# Altium schematic symbol library Intelliclone.SchLib: 488 symbols (part 4 of 6)
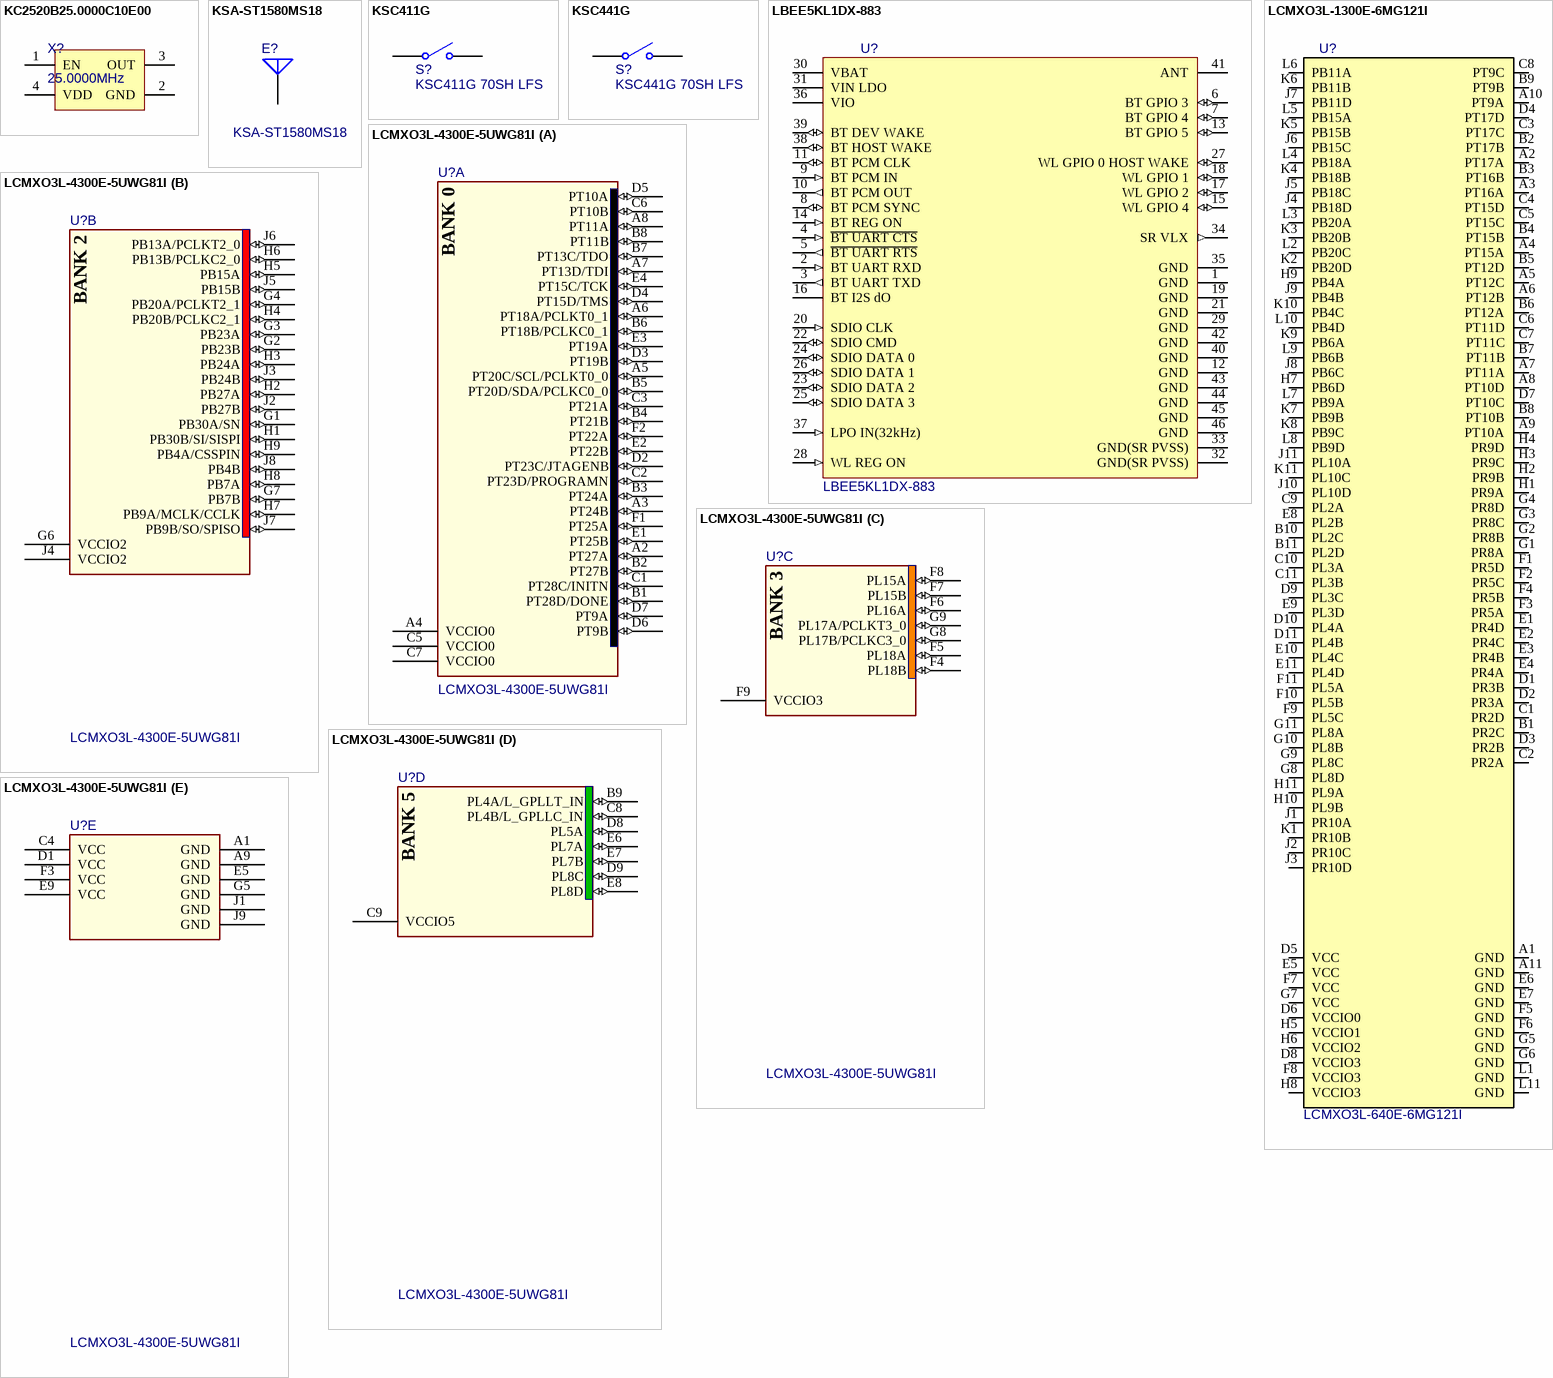
[diagram p24: symbols KC2520B25.0000C10E00 to LCMXO3L-4300E-5UWG81I]

## KSC411G
designator S?, comment KSC411G 70SH LFS
SWITCH TACT TOP ACT 400GF SMD; Manufacturer 1: C&K Components; Manufacturer Part Number 1: KSC411G 70SH LFS; Value: KSC411G 70SH LFS; Supplier 1: Digi-Key; Supplier Part Number 1: 401-1777-1-ND
footprint SWITCH-620G-4N (Switch Momentary Pushbutton 6.2mmx6.2mm Gull Lead)
pins: 1 COMMON, 2 NO

## KSC441G
designator S?, comment KSC441G 70SH LFS
SWITCH TACT TOP ACT 400GF SMD; Value: KSC441G 70SH LFS; Supplier 1: Digi-Key; Supplier Part Number 1: 401-1783-1-ND
footprint SWITCH-620G-4N (Switch Momentary Pushbutton 6.2mmx6.2mm Gull Lead)
pins: 1 COMMON, 2 NO

## LBEE5KL1DX-883
designator U?  (value not drawn)
RF TXRX MOD BLUETOOTH/WIFI; Manufacturer 1: Murata; CMT Part Number: 100215; Value: LBEE5KL1DX-883; Manufacturer Part Number 1: LBEE5KL1DX-883; Supplier 1: Digi-Key; Supplier Part Number 1: 490-13461-1-ND
footprint LBEE5KL1DX
pins: 1 GND (power), 2 BT UART RXD (in), 3 BT UART TXD (out), 4 ~{BT UART CTS} (in), 5 ~{BT UART RTS} (out), 6 BT GPIO 3 (io), 7 BT GPIO 4 (io), 8 BT PCM SYNC (io), 9 BT PCM IN (in), 10 BT PCM OUT (out), 11 BT PCM CLK (io), 12 GND (power), 13 BT GPIO 5 (io), 14 BT REG ON (in), 15 WL GPIO 4 (io), 16 BT I2S dO, 17 WL GPIO 2 (io), 18 WL GPIO 1 (io), 19 GND (power), 20 SDIO CLK (in), 21 GND (power), 22 SDIO CMD (io), 23 SDIO DATA 2 (io), 24 SDIO DATA 0 (io), 25 SDIO DATA 3 (io), 26 SDIO DATA 1 (io), 27 WL GPIO 0 HOST WAKE (io), 28 WL REG ON (in), 29 GND (power), 30 VBAT (power), 31 VIN LDO (power), 32 GND(SR PVSS) (power), 33 GND(SR PVSS) (power), 34 SR VLX (out), 35 GND (power), 36 VIO (power), 37 LPO IN(32kHz) (in), 38 BT HOST WAKE (io), 39 BT DEV WAKE (io), 40 GND (power), 41 ANT, 42 GND (power), 43 GND (power), 44 GND (power), 45 GND (power), 46 GND (power)

## LCMXO3L-1300E-6MG121I
designator U?, comment LCMXO3L-640E-6MG121I
IC FPGA 100 I/O 121CSFBGA; MF: Lattice Semiconductor; MP: LCMXO3L-1300E-6MG121I; SnapEDA_Link: https://www.snapeda.com/parts/LCMXO3L-640E-6MG121I/Lattice%20Semiconductor%20Corporation/view-part/?ref=snap; Package: VFBGA-121 Lattice Semiconductor; Price: None; Availability: Unavailable; Value: *
footprint BGA121N50P11X11_600X600X100_LCMXO3L-640E-6MG121I(Primary)
pins: A1 GND (power), A2 PT17A (io), A3 PT16A (io), A4 PT15A (io), A5 PT12C (io), A6 PT12B (io), A7 PT11A (io), A8 PT10D (io), A9 PT10A (io), A10 PT9A (io), A11 GND (power), B1 PR2C (io), B2 PT17B (io), B3 PT16B (io), B4 PT15B (io), B5 PT12D (io), B6 PT12A (io), B7 PT11B (io), B8 PT10B (io), B9 PT9B (io), B10 PL2C (io), B11 PL2D (io), C1 PR2D (io), C2 PR2A (io), C3 PT17C (io), C4 PT15D (io), C5 PT15C (io), C6 PT11D (io), C7 PT11C (io), C8 PT9C (io), C9 PL2A (io), C10 PL3A (io), C11 PL3B (io), D1 PR3B (io), D2 PR3A (io), D3 PR2B (io), D4 PT17D (io), D5 VCC (power), D6 VCCIO0 (power), D7 PT10C (io), D8 VCCIO3 (power), D9 PL3C (io), D10 PL4A (io), D11 PL4B (io), E1 PR4D (io), E2 PR4C (io), E3 PR4B (io), E4 PR4A (io), E5 VCC (power), E6 GND (power), E7 GND (power), E8 PL2B (io), E9 PL3D (io), E10 PL4C (io), E11 PL4D (io), F1 PR5D (io), F2 PR5C (io), F3 PR5A (io), F4 PR5B (io), F5 GND (power), F6 GND (power), F7 VCC (power), F8 VCCIO3 (power), F9 PL5C (io), F10 PL5B (io), F11 PL5A (io), G1 PR8A (io), G2 PR8B (io), G3 PR8C (io), G4 PR8D (io), G5 GND (power), G6 GND (power), G7 VCC (power), G8 PL8D (io), G9 PL8C (io), G10 PL8B (io), G11 PL8A (io), H1 PR9A (io), H2 PR9B (io), H3 PR9C (io), H4 PR9D (io), H5 VCCIO1 (power), H6 VCCIO2 (power), H7 PB6D (io), H8 VCCIO3 (power), H9 PB4A (io), H10 PL9B (io), H11 PL9A (io), J1 PR10A (io), J2 PR10C (io), J3 PR10D (io), J4 PB18D (io), J5 PB18C (io), J6 PB15C (io), J7 PB11D (io), J8 PB6C (io), J9 PB4B (io), J10 PL10D (io), J11 PL10A (io), K1 PR10B (io), K2 PB20D (io), K3 PB20B (io), K4 PB18B (io), K5 PB15B (io), K6 PB11B (io), K7 PB9B (io), K8 PB9C (io), K9 PB6A (io), K10 PB4C (io), K11 PL10C (io), L1 GND (power), L2 PB20C (io), L3 PB20A (io), L4 PB18A (io), L5 PB15A (io), L6 PB11A (io), L7 PB9A (io), L8 PB9D (io), L9 PB6B (io), L10 PB4D (io), L11 GND (power)

## LCMXO3L-4300E-5UWG81I
designator U?
IC FPGA 63 I/O 81WCLSP; Manufacturer Part Number 1: LCMXO3L-4300E-5UWG81ITR1K; Manufacturer 1: Lattice Semiconductor; SWAP_INFO: (S1+S2+S3+S4+S5); SPLIT_INST: TRUE; Number of I/Os: 63; Supplier 1: Digi-Key; Supplier Part Number 1: 220-2237-6-ND; Value: LCMXO3L-4300E-5UWG81I
footprint BGA81C40P9X9_369X380X57 (BGA, 81-Leads, Body 3.69x3.80mmx0.57mm, Pitch 0.40mm)
part A pins: A2 PT27A (io), A3 PT24B (io), A4 VCCIO0 (power), A5 PT20C/SCL/PCLKT0_0 (io), A6 PT18A/PCLKT0_1 (io), A7 PT13D/TDI (io), A8 PT11A (io), B1 PT28D/DONE (io), B2 PT27B (io), B3 PT24A (io), B4 PT21B (io), B5 PT20D/SDA/PCLKC0_0 (io), B6 PT18B/PCLKC0_1 (io), B7 PT13C/TDO (io), B8 PT11B (io), C1 PT28C/INITN (io), C2 PT23D/PROGRAMN (io), C3 PT21A (io), C5 VCCIO0 (power), C6 PT10B (io), C7 VCCIO0 (power), D2 PT23C/JTAGENB (io), D3 PT19B (io), D4 PT15D/TMS (io), D5 PT10A (io), D6 PT9B (io), D7 PT9A (io), E1 PT25B (io), E2 PT22B (io), E3 PT19A (io), E4 PT15C/TCK (io), F1 PT25A (io), F2 PT22A (io)
part B pins: G1 PB30A/SN (io), G2 PB23B (io), G3 PB23A (io), G4 PB20A/PCLKT2_1 (io), G6 VCCIO2 (power), G7 PB7B (io), H1 PB30B/SI/SISPI (io), H2 PB27A (io), H3 PB24A (io), H4 PB20B/PCLKC2_1 (io), H5 PB15A (io), H6 PB13B/PCLKC2_0 (io), H7 PB9A/MCLK/CCLK (io), H8 PB7A (io), H9 PB4A/CSSPIN (io), J2 PB27B (io), J3 PB24B (io), J4 VCCIO2 (power), J5 PB15B (io), J6 PB13A/PCLKT2_0 (io), J7 PB9B/SO/SPISO (io), J8 PB4B (io)
part C pins: F4 PL18B (io), F5 PL18A (io), F6 PL16A (io), F7 PL15B (io), F8 PL15A (io), F9 VCCIO3 (power), G8 PL17B/PCLKC3_0 (io), G9 PL17A/PCLKT3_0 (io)
part D pins: B9 PL4A/L_GPLLT_IN (io), C8 PL4B/L_GPLLC_IN (io), C9 VCCIO5 (power), D8 PL5A (io), D9 PL8C (io), E6 PL7A (io), E7 PL7B (io), E8 PL8D (io)
part E pins: A1 GND (power), A9 GND (power), C4 VCC (power), D1 VCC (power), E5 GND (power), E9 VCC (power), F3 VCC (power), G5 GND (power), J1 GND (power), J9 GND (power)
part A text: BANK 0
part B text: BANK 2
part C text: BANK 3
part D text: BANK 5

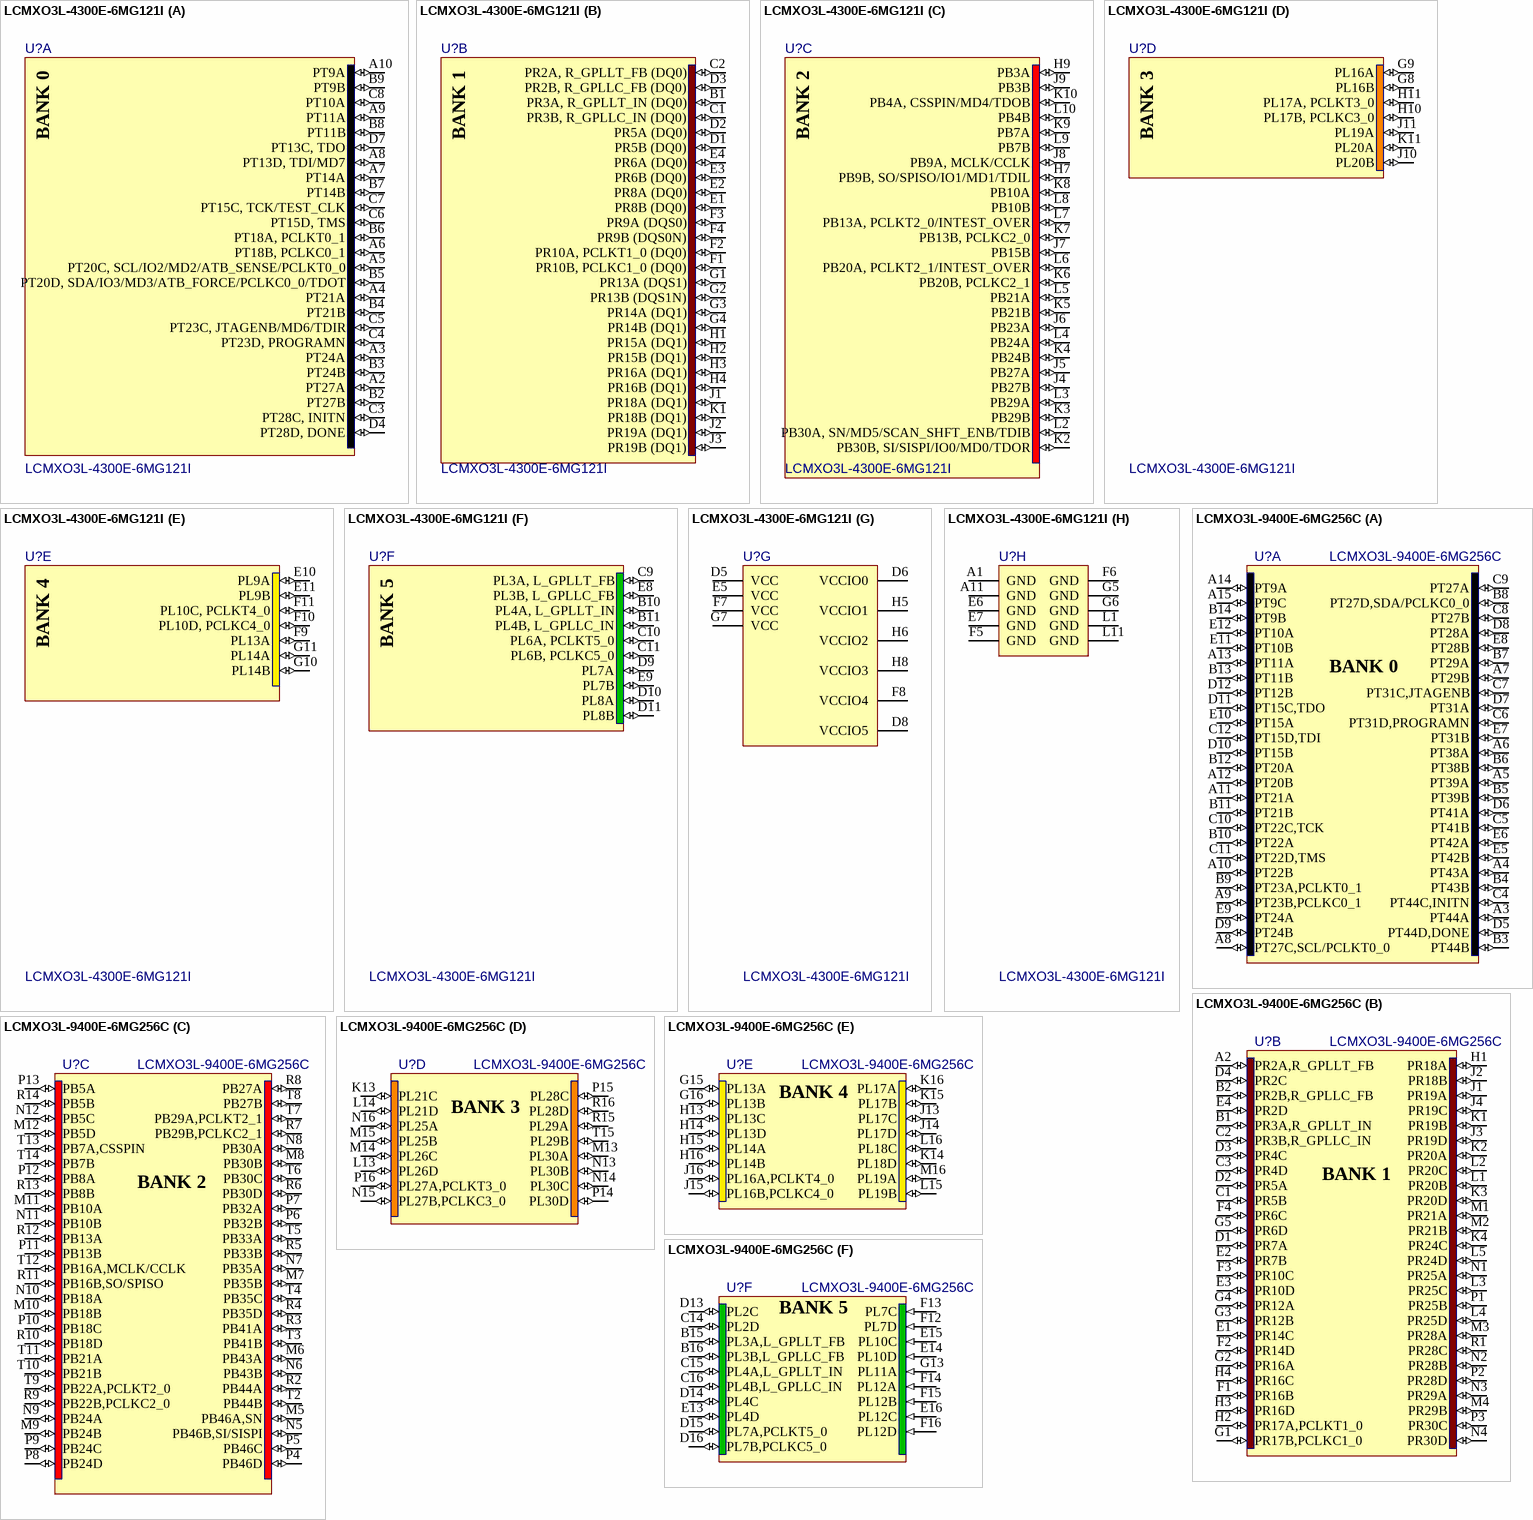
[diagram p10: symbols LCMXO3L-4300E-6MG121I to LCMXO3L-9400E-6MG256C]

## LCMXO3L-4300E-6MG121I
designator U?
IC FPGA 100 I/O 121CSFBGA; DatasheetVersion: ver01.5, Aug-2011; PackageVersion: ver02.8, Jul-2011; PackageReference: csfBGA121; PackageDescription: 121-Ball Chip Scale Ball Grid Array (csfBGA121); ComponentLink1Description: Manufacturer URL; ComponentLink1URL: http://www.latticesemi.com/; ComponentLink2Description: Datasheet; ComponentLink2URL: http://www.latticesemi.com/documents/DS1035.pdf; ComponentLink3Description: Package Specification; ComponentLink3URL: http://www.latticesemi.com/lit/docs/package/pkg.pdf
footprint csBGA132 (BGA, 132-Leads, Body 8x8mm, Pitch 0.5mm)
part A pins: A2 PT27A (io), A3 PT24A (io), A4 PT21A (io), A5 PT20C, SCL/IO2/MD2/ATB_SENSE/PCLKT0_0 (io), A6 PT18B, PCLKC0_1 (io), A7 PT14A (io), A8 PT13D, TDI/MD7 (io), A9 PT11A (io), A10 PT9A (io), B2 PT27B (io), B3 PT24B (io), B4 PT21B (io), B5 PT20D, SDA/IO3/MD3/ATB_FORCE/PCLKC0_0/TDOT (io), B6 PT18A, PCLKT0_1 (io), B7 PT14B (io), B8 PT11B (io), B9 PT9B (io), C3 PT28C, INITN (io), C4 PT23D, PROGRAMN (io), C5 PT23C, JTAGENB/MD6/TDIR (io), C6 PT15D, TMS (io), C7 PT15C, TCK/TEST_CLK (io), C8 PT10A (io), D4 PT28D, DONE (io), D7 PT13C, TDO (io)
part B pins: B1 PR3A, R_GPLLT_IN (DQ0) (io), C1 PR3B, R_GPLLC_IN (DQ0) (io), C2 PR2A, R_GPLLT_FB (DQ0) (io), D1 PR5B (DQ0) (io), D2 PR5A (DQ0) (io), D3 PR2B, R_GPLLC_FB (DQ0) (io), E1 PR8B (DQ0) (io), E2 PR8A (DQ0) (io), E3 PR6B (DQ0) (io), E4 PR6A (DQ0) (io), F1 PR10B, PCLKC1_0 (DQ0) (io), F2 PR10A, PCLKT1_0 (DQ0) (io), F3 PR9A (DQS0) (io), F4 PR9B (DQS0N) (io), G1 PR13A (DQS1) (io), G2 PR13B (DQS1N) (io), G3 PR14A (DQ1) (io), G4 PR14B (DQ1) (io), H1 PR15A (DQ1) (io), H2 PR15B (DQ1) (io), H3 PR16A (DQ1) (io), H4 PR16B (DQ1) (io), J1 PR18A (DQ1) (io), J2 PR19A (DQ1) (io), J3 PR19B (DQ1) (io), K1 PR18B (DQ1) (io)
part C pins: H7 PB9B, SO/SPISO/IO1/MD1/TDIL (io), H9 PB3A (io), J4 PB27B (io), J5 PB27A (io), J6 PB23A (io), J7 PB15B (io), J8 PB9A, MCLK/CCLK (io), J9 PB3B (io), K2 PB30B, SI/SISPI/IO0/MD0/TDOR (io), K3 PB29B (io), K4 PB24B (io), K5 PB21B (io), K6 PB20B, PCLKC2_1 (io), K7 PB13B, PCLKC2_0 (io), K8 PB10A (io), K9 PB7A (io), K10 PB4A, CSSPIN/MD4/TDOB (io), L2 PB30A, SN/MD5/SCAN_SHFT_ENB/TDIB (io), L3 PB29A (io), L4 PB24A (io), L5 PB21A (io), L6 PB20A, PCLKT2_1/INTEST_OVER (io), L7 PB13A, PCLKT2_0/INTEST_OVER (io), L8 PB10B (io), L9 PB7B (io), L10 PB4B (io)
part D pins: G8 PL16B (io), G9 PL16A (io), H10 PL17B, PCLKC3_0 (io), H11 PL17A, PCLKT3_0 (io), J10 PL20B (io), J11 PL19A (io), K11 PL20A (io)
part E pins: E10 PL9A (io), E11 PL9B (io), F9 PL13A (io), F10 PL10D, PCLKC4_0 (io), F11 PL10C, PCLKT4_0 (io), G10 PL14B (io), G11 PL14A (io)
part F pins: B10 PL4A, L_GPLLT_IN (io), B11 PL4B, L_GPLLC_IN (io), C9 PL3A, L_GPLLT_FB (io), C10 PL6A, PCLKT5_0 (io), C11 PL6B, PCLKC5_0 (io), D9 PL7A (io), D10 PL8A (io), D11 PL8B (io), E8 PL3B, L_GPLLC_FB (io), E9 PL7B (io)
part G pins: D5 VCC (power), D6 VCCIO0 (power), D8 VCCIO5 (power), E5 VCC (power), F7 VCC (power), F8 VCCIO4 (power), G7 VCC (power), H5 VCCIO1 (power), H6 VCCIO2 (power), H8 VCCIO3 (power)
part H pins: A1 GND (power), A11 GND (power), E6 GND (power), E7 GND (power), F5 GND (power), F6 GND (power), G5 GND (power), G6 GND (power), L1 GND (power), L11 GND (power)
part A text: BANK 0
part B text: BANK 1
part C text: BANK 2
part D text: BANK 3
part E text: BANK 4
part F text: BANK 5

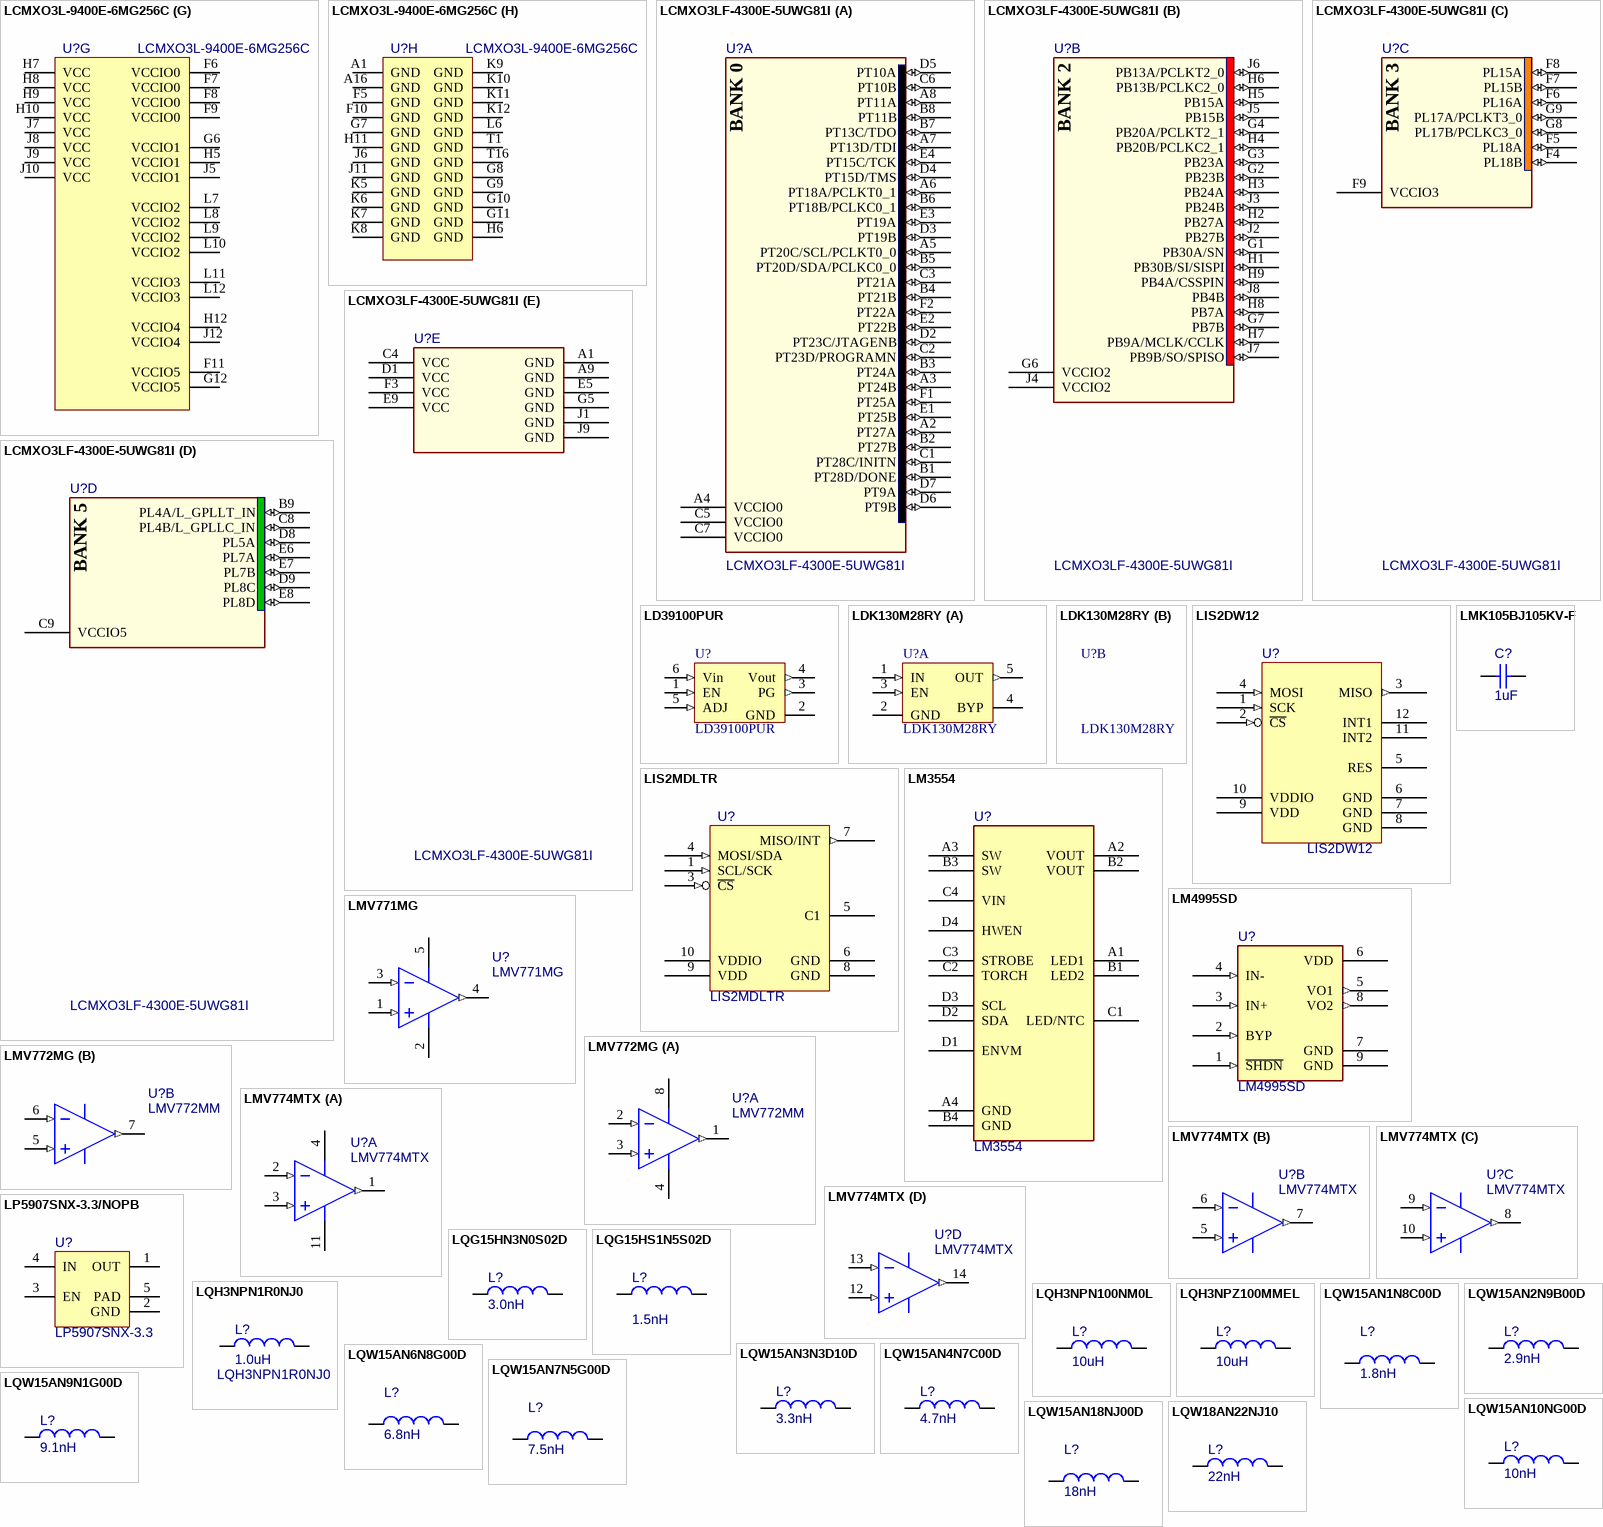
[diagram p11: symbols LCMXO3L-9400E-6MG256C to LQW18AN22NJ10]

## LCMXO3L-9400E-6MG256C
designator U?
9400 LUTS 206 I/O 1.2V -6 SPEED; Manufacturer 1: Lattice Semiconductor; CMT Part Number: 100209; DatasheetVersion: ver01.5, Aug-2011; PackageVersion: ver02.8, Jul-2011; PackageReference: csfBGA; PackageDescription: 256-Ball Halogen-Free csfBGA (0.5 mm Pitch); ComponentLink1Description: Manufacturer URL; ComponentLink1URL: http://www.latticesemi.com/; ComponentLink2Description: Datasheet; ComponentLink2URL: http://www.latticesemi.com/documents/DS1035.pdf; ComponentLink3Description: Package Specification; ComponentLink3URL: http://www.latticesemi.com/lit/docs/package/pkg.pdf; Value: LCMXO3L-9400E-6MG256C; Manufacturer Part Number 1: LCMXO3L-9400E-6MG256C; Supplier 1: Digi-Key; Supplier Part Number 1: LCMXO3L-9400E-6MG256C-ND
footprint BGA256C50P16X16_900X900X100 (BGA, 256-Leads, Body 9.00x9.00mmx1.00mm, Pitch 0.50mm)
part A pins: A3 PT44A (io), A4 PT43A (io), A5 PT39A (io), A6 PT38A (io), A7 PT29B (io), A8 PT27C,SCL/PCLKT0_0 (io), A9 PT23B,PCLKC0_1 (io), A10 PT22B (io), A11 PT21A (io), A12 PT20B (io), A13 PT11A (io), A14 PT9A (io), A15 PT9C (io), B3 PT44B (io), B4 PT43B (io), B5 PT39B (io), B6 PT38B (io), B7 PT29A (io), B8 PT27D,SDA/PCLKC0_0 (io), B9 PT23A,PCLKT0_1 (io), B10 PT22A (io), B11 PT21B (io), B12 PT20A (io), B13 PT11B (io), B14 PT9B (io), C4 PT44C,INITN (io), C5 PT41B (io), C6 PT31D,PROGRAMN (io), C7 PT31C,JTAGENB (io), C8 PT27B (io), C9 PT27A (io), C10 PT22C,TCK (io), C11 PT22D,TMS (io), C12 PT15D,TDI (io), D5 PT44D,DONE (io), D6 PT41A (io), D7 PT31A (io), D8 PT28A (io), D9 PT24B (io), D10 PT15B (io), D11 PT15C,TDO (io), D12 PT12B (io), E5 PT42B (io), E6 PT42A (io), E7 PT31B (io), E8 PT28B (io), E9 PT24A (io), E10 PT15A (io), E11 PT10B (io), E12 PT10A (io)
part B pins: A2 PR2A,R_GPLLT_FB (io), B1 PR3A,R_GPLLT_IN (io), B2 PR2B,R_GPLLC_FB (io), C1 PR5B (io), C2 PR3B,R_GPLLC_IN (io), C3 PR4D (io), D1 PR7A (io), D2 PR5A (io), D3 PR4C (io), D4 PR2C (io), E1 PR14C (io), E2 PR7B (io), E3 PR10D (io), E4 PR2D (io), F1 PR16B (io), F2 PR14D (io), F3 PR10C (io), F4 PR6C (io), G1 PR17B,PCLKC1_0 (io), G2 PR16A (io), G3 PR12B (io), G4 PR12A (io), G5 PR6D (io), H1 PR18A (io), H2 PR17A,PCLKT1_0 (io), H3 PR16D (io), H4 PR16C (io), J1 PR19A (io), J2 PR18B (io), J3 PR19D (io), J4 PR19C (io), K1 PR19B (io), K2 PR20A (io), K3 PR20D (io), K4 PR24C (io), L1 PR20B (io), L2 PR20C (io), L3 PR25C (io), L4 PR25D (io), L5 PR24D (io), M1 PR21A (io), M2 PR21B (io), M3 PR28A (io), M4 PR29B (io), N1 PR25A (io), N2 PR28B (io), N3 PR29A (io), N4 PR30D (io), P1 PR25B (io), P2 PR28D (io), P3 PR30C (io), R1 PR28C (io)
part C pins: M5 PB46A,SN (io), M6 PB43A (io), M7 PB35B (io), M8 PB30B (io), M9 PB24B (io), M10 PB18B (io), M11 PB10A (io), M12 PB5D (io), N5 PB46B,SI/SISPI (io), N6 PB43B (io), N7 PB35A (io), N8 PB30A (io), N9 PB24A (io), N10 PB18A (io), N11 PB10B (io), N12 PB5C (io), P4 PB46D (io), P5 PB46C (io), P6 PB32B (io), P7 PB32A (io), P8 PB24D (io), P9 PB24C (io), P10 PB18C (io), P11 PB13B (io), P12 PB8A (io), P13 PB5A (io), R2 PB44A (io), R3 PB41A (io), R4 PB35D (io), R5 PB33B (io), R6 PB30D (io), R7 PB29B,PCLKC2_1 (io), R8 PB27A (io), R9 PB22B,PCLKC2_0 (io), R10 PB18D (io), R11 PB16B,SO/SPISO (io), R12 PB13A (io), R13 PB8B (io), R14 PB5B (io), T2 PB44B (io), T3 PB41B (io), T4 PB35C (io), T5 PB33A (io), T6 PB30C (io), T7 PB29A,PCLKT2_1 (io), T8 PB27B (io), T9 PB22A,PCLKT2_0 (io), T10 PB21B (io), T11 PB21A (io), T12 PB16A,MCLK/CCLK (io), T13 PB7A,CSSPIN (io), T14 PB7B (io)
part D pins: K13 PL21C (io), L13 PL26D (io), L14 PL21D (io), M13 PL30A (io), M14 PL26C (io), M15 PL25B (io), N13 PL30B (io), N14 PL30C (io), N15 PL27B,PCLKC3_0 (io), N16 PL25A (io), P14 PL30D (io), P15 PL28C (io), P16 PL27A,PCLKT3_0 (io), R15 PL29A (io), R16 PL28D (io), T15 PL29B (io)
part E pins: G15 PL13A (io), G16 PL13B (io), H13 PL13C (io), H14 PL13D (io), H15 PL14A (io), H16 PL14B (io), J13 PL17C (io), J14 PL17D (io), J15 PL16B,PCLKC4_0 (io), J16 PL16A,PCLKT4_0 (io), K14 PL18D (io), K15 PL17B (io), K16 PL17A (io), L15 PL19B (io), L16 PL18C (io), M16 PL19A (io)
part F pins: B15 PL3A,L_GPLLT_FB (io), B16 PL3B,L_GPLLC_FB (io), C14 PL2D (io), C15 PL4A,L_GPLLT_IN (io), C16 PL4B,L_GPLLC_IN (io), D13 PL2C (io), D14 PL4C (io), D15 PL7A,PCLKT5_0 (io), D16 PL7B,PCLKC5_0 (io), E13 PL4D (io), E14 PL10D (in), E15 PL10C (in), E16 PL12C (in), F12 PL7D (in), F13 PL7C (in), F14 PL12A (in), F15 PL12B (in), F16 PL12D (in), G13 PL11A (in)
part G pins: F6 VCCIO0 (power), F7 VCCIO0 (power), F8 VCCIO0 (power), F9 VCCIO0 (power), F11 VCCIO5 (power), G6 VCCIO1 (power), G12 VCCIO5 (power), H5 VCCIO1 (power), H7 VCC (power), H8 VCC (power), H9 VCC (power), H10 VCC (power), H12 VCCIO4 (power), J5 VCCIO1 (power), J7 VCC (power), J8 VCC (power), J9 VCC (power), J10 VCC (power), J12 VCCIO4 (power), L7 VCCIO2 (power), L8 VCCIO2 (power), L9 VCCIO2 (power), L10 VCCIO2 (power), L11 VCCIO3 (power), L12 VCCIO3 (power)
part H pins: A1 GND (power), A16 GND (power), F5 GND (power), F10 GND (power), G7 GND (power), G8 GND (power), G9 GND (power), G10 GND (power), G11 GND (power), H6 GND (power), H11 GND (power), J6 GND (power), J11 GND (power), K5 GND (power), K6 GND (power), K7 GND (power), K8 GND (power), K9 GND (power), K10 GND (power), K11 GND (power), K12 GND (power), L6 GND (power), T1 GND (power), T16 GND (power)
part A text: BANK 0
part B text: BANK 1
part C text: BANK 2
part D text: BANK 3
part E text: BANK 4
part F text: BANK 5

## LCMXO3LF-4300E-5UWG81I
designator U?
IC FPGA 63 I/O 81WCLSP; Manufacturer Part Number 1: LCMXO3LF-4300E-5UWG81ITR1K; Manufacturer 1: Lattice Semiconductor; SWAP_INFO: (S1+S2+S3+S4+S5); SPLIT_INST: TRUE; Number of I/Os: 63; Supplier 1: Digi-Key; Supplier Part Number 1: 220-2157-1-ND; Value: LCMXO3LF-4300E-5UWG81I; Supplier 2: Mouser; Supplier Part Number 2: 842-4300E5UWG81ITR1K
footprint BGA81C40P9X9_369X380X57 (BGA, 81-Leads, Body 3.69x3.80mmx0.57mm, Pitch 0.40mm)
part A pins: A2 PT27A (io), A3 PT24B (io), A4 VCCIO0 (power), A5 PT20C/SCL/PCLKT0_0 (io), A6 PT18A/PCLKT0_1 (io), A7 PT13D/TDI (io), A8 PT11A (io), B1 PT28D/DONE (io), B2 PT27B (io), B3 PT24A (io), B4 PT21B (io), B5 PT20D/SDA/PCLKC0_0 (io), B6 PT18B/PCLKC0_1 (io), B7 PT13C/TDO (io), B8 PT11B (io), C1 PT28C/INITN (io), C2 PT23D/PROGRAMN (io), C3 PT21A (io), C5 VCCIO0 (power), C6 PT10B (io), C7 VCCIO0 (power), D2 PT23C/JTAGENB (io), D3 PT19B (io), D4 PT15D/TMS (io), D5 PT10A (io), D6 PT9B (io), D7 PT9A (io), E1 PT25B (io), E2 PT22B (io), E3 PT19A (io), E4 PT15C/TCK (io), F1 PT25A (io), F2 PT22A (io)
part B pins: G1 PB30A/SN (io), G2 PB23B (io), G3 PB23A (io), G4 PB20A/PCLKT2_1 (io), G6 VCCIO2 (power), G7 PB7B (io), H1 PB30B/SI/SISPI (io), H2 PB27A (io), H3 PB24A (io), H4 PB20B/PCLKC2_1 (io), H5 PB15A (io), H6 PB13B/PCLKC2_0 (io), H7 PB9A/MCLK/CCLK (io), H8 PB7A (io), H9 PB4A/CSSPIN (io), J2 PB27B (io), J3 PB24B (io), J4 VCCIO2 (power), J5 PB15B (io), J6 PB13A/PCLKT2_0 (io), J7 PB9B/SO/SPISO (io), J8 PB4B (io)
part C pins: F4 PL18B (io), F5 PL18A (io), F6 PL16A (io), F7 PL15B (io), F8 PL15A (io), F9 VCCIO3 (power), G8 PL17B/PCLKC3_0 (io), G9 PL17A/PCLKT3_0 (io)
part D pins: B9 PL4A/L_GPLLT_IN (io), C8 PL4B/L_GPLLC_IN (io), C9 VCCIO5 (power), D8 PL5A (io), D9 PL8C (io), E6 PL7A (io), E7 PL7B (io), E8 PL8D (io)
part E pins: A1 GND (power), A9 GND (power), C4 VCC (power), D1 VCC (power), E5 GND (power), E9 VCC (power), F3 VCC (power), G5 GND (power), J1 GND (power), J9 GND (power)
part A text: BANK 0
part B text: BANK 2
part C text: BANK 3
part D text: BANK 5

## LD39100PUR
designator U?
IC REG LINEAR POS ADJ 1A 6DFN; Manufacturer 1: STMicroelectronics; Supplier 1: Digi-Key; Max Output Current: 1A; Manufacturer Part Number 1: LD39100PUR; Supplier Part Number 1: 497-11013-6-ND; Value: LD39100PUR
footprint PSON127P600-6N (DFN6 (3x3 mm))
pins: 1 EN (in), 2 GND, 3 PG (out), 4 Vout (out), 5 ADJ (in), 6 Vin (in)

## LDK130M28RY
designator U?
IC REG LINEAR 2.8V 300MA SOT23-5; Manufacturer 1: STMicroelectronics; Supplier 1: Digikey; Manufacturer Part Number 1: LDK130M28RY; Supplier Part Number 1: 497-17799-6-ND
footprint SOT95P280X145-5N (SOT23, 5-Leads, Body 2.98x2.80mm, Pitch 0.95mm, IPC Medium Density)
part A pins: 1 IN (in), 2 GND, 3 EN (in), 4 BYP, 5 OUT (out)

## LIS2DW12
designator U?
IC MEMS MOTION SENSOR 12QNF SMD; Manufacturer 1: ST Microelectronics; Manufacturer Part Number 1: LIS2DW12TR; CMT Part Number: 100143; Value: LIS2DW12; Supplier 1: Digi-Key; Supplier Part Number 1: 497-17718-1-ND
footprint LGA12R50P4X4_200X200X70
pins: 1 SCK (in), 2 ~{CS} (in), 3 MISO (out), 4 MOSI (in), 5 RES, 6 GND (power), 7 GND (power), 8 GND (power), 9 VDD (power), 10 VDDIO (power), 11 INT2 (oc), 12 INT1 (oc)

## LIS2MDLTR
designator U?
IC MAGNETOMETER SENSOR 12QNF SMD; Manufacturer 1: ST Microelectronics; CMT Part Number: 100251; Value: LIS2MDLTR; Manufacturer Part Number 1: LIS2MDLTR; Supplier 1: Digi-Key; Supplier Part Number 1: 497-17588-1-ND; Supplier 2: Mouser; Supplier Part Number 2: 511-LIS2MDLTR
footprint LGA12R50P4X4_200X200X70
pins: 1 SCL/SCK (in), 3 ~{CS} (in), 4 MOSI/SDA (in), 5 C1, 6 GND (power), 7 MISO/INT (out), 8 GND (power), 9 VDD (power), 10 VDDIO (power)

## LM3554
designator U?
IC LED DVR PHOTO FLASH 16DSBGA; Manufacturer 1: Texas Instruements; Manufacturer Part Number 1: LM3554TMX/NOPB; Value: LM3554TMX; Supplier 1: Digi-Key; Supplier Part Number 1: 296-35278-1-ND; Supplier 2: Mouser; Supplier Part Number 2: 926-LM3554TME/NOPB
footprint BGA16C40P4X4_166X166X62 (BGA, 16-Leads, Body 1.66x1.66mmx0.63mm, Pitch 0.40mm)
pins: A1 LED1, A2 VOUT, A3 SW, A4 GND, B1 LED2, B2 VOUT, B3 SW, B4 GND, C1 LED/NTC, C2 TORCH, C3 STROBE, C4 VIN, D1 ENVM, D2 SDA, D3 SCL, D4 HWEN

## LM4995SD
designator U?
IC AMP AUDIO PWR 1.25W MONO 8LLP; Manufacturer 1: Texas Instruments; Manufacturer Part Number 1: LM4995SD/NOPB; Value: LM4995SD; Supplier 1: Digi-Key; Supplier Part Number 1: LM4995SD/NOPBCT-ND; Supplier 2: Mouser; Supplier Part Number 2: 926-LM4995SD/NOPB
footprint PSON50P300X300X80-9N
pins: 1 ~{SHDN} (in), 2 BYP (in), 3 IN+ (in), 4 IN- (in), 5 VO1 (out), 6 VDD (power), 7 GND (power), 8 VO2 (out), 9 GND (power)

## LMK105BJ105KV-F
designator C?, comment 1uF
CAP CER 1UF 10V X5R 0402; Manufacturer Part Number 1: LMK105BJ105KV-F; Manufacturer 1: Taiyo Yuden; CMT Part Number: 100152; Part Type: Chip Capacitor; Voltage: 10V; Supplier 1: Digi-Key; Supplier Part Number 1: 587-1454-1-ND; Value: 1uF
footprint CAPC3216L (Chip Capacitor, Body 3.2x1.6mm, IPC High Density)
footprint CAPC1005L (Chip Capacitor, Body 1.0x0.5mm, IPC High Density)
footprint CAPC2512L (Chip Capacitor, Body 2.54x1.27mm, IPC High Density)
footprint CAPC1608L (Chip Capacitor, Body 1.6x0.8mm, IPC High Density)
footprint CAPC3225L (Chip Capacitor, Body 3.2x2.5mm, IPC High Density)
simulation model CAP (Semiconductor Capacitor)
signal-integrity model Cap Semi
footprint 01005-TIGHT
footprint 0201-TIGHT
footprint 0402-TIGHT (For packing)
footprint 0402 Capacitor
footprint 0402CS-RADIO
footprint 0201_CAPACITOR (0201 Standard Footprint)
pins: 1, 2

## LMV771MG
designator U?
IC OPAMP GP 3.5MHZ RRO SC70-5; Manufacturer 1: Texas Instruments; Manufacturer Part Number 1: LMV771MG/NOPB; Value: LMV771MG; Supplier 1: Digi-Key; Supplier Part Number 1: LMV771MG/NOPBTR-ND
footprint SOT65P210X110-5N (SOT23, 5-Leads, Body 2.00x2.10mm, Pitch 0.65mm, IPC Medium Density)
pins: 1 IN+ (in), 2 V- (power), 3 IN- (in), 4 OUT (out), 5 V+ (power)

## LMV772MG
designator U?, comment LMV772MM
IC OPAMP GP 3.5MHZ RRO 8VSSOP; Manufacturer: Texas Instruments; Manufacturer Part Number 1: LMV772MMX/NOPB; Value: LMV772MM; Supplier 1: Digi-Key; Supplier Part Number 1: 296-44824-1-ND
footprint LMV772MMX/NOPB (TSOP, 8-Leads, Body 3.00x3.00mm, Pitch 0.65mm, IPC Medium Density)
part A pins: 1 OUT (out), 2 IN- (in), 3 IN+ (in), 4 V- (power), 8 V+ (power)
part B pins: 5 IN+ (in), 6 IN- (in), 7 OUT (out)

## LMV774MTX
designator U?
IC OPAMP GP 3.5MHZ RRO 14VSSOP; Manufacturer: Texas Instruments; Manufacturer Part Number 1: LMV774MTX/NOPB; Value: LMV774MTX; Supplier 1: Digi-Key; Supplier Part Number 1: LMV774MTX/NOPBCT-ND
footprint TSOP65P640X120-14N (TSOP, 14-Leads, Body 5.00x4.40mm, Pitch 0.65mm, IPC Medium Density)
part A pins: 1 OUT (out), 2 IN- (in), 3 IN+ (in), 4 V- (power), 11 V+ (power)
part B pins: 5 IN+ (in), 6 IN- (in), 7 OUT (out)
part C pins: 8 OUT (out), 9 IN- (in), 10 IN+ (in)
part D pins: 12 IN+ (in), 13 IN- (in), 14 OUT (out)

## LP5907SNX-3.3/NOPB
designator U?, comment LP5907SNX-3.3
IC REG LDO 3.3V 0.25A 4X2SON; Manufacturer Part Number 1: LP5907SNX-3.3/NOPB; Manufacturer 1: Texas Instruments; Supplier 1: Digi-Key; Supplier Part Number 1: 296-39066-1-ND; Value: LP5907SNX-3.3
footprint X2SON (XSON for TI LDO)
pins: 1 OUT, 2 GND, 3 EN, 4 IN, 5 PAD

## LQG15HN3N0S02D
designator L?, comment 3.0nH
INDUCTOR 3NH 300MA 180 MOHM SMD; Manufacturer 1: Murata; Manufacturer Part Number 1: LQG15HN3N0S02D; Part Type: Chip Inductor; Supplier 1: Digi-Key; Supplier Part Number 1: 490-6560-1-ND; Value: 3.0nH
footprint INDC1005AL (Chip Inductor, Body 1.0x0.5mm, IPC High Density)
footprint INDC1608L (Chip Inductor, Body 1.6x0.8mm, IPC High Density)
footprint INDC2012L (Chip Inductor, Body 2.0x1.2mm, IPC High Density)
footprint 0402CS-RADIO (Coilcraft Inductor)
footprint INDC3216AL (Chip Inductor, Body 3.2x1.6mm, IPC High Density)
footprint INDC4532L (Chip Inductor, Body 4.5x3.2mm, IPC High Density)
simulation model INDUCTOR (Inductor)
signal-integrity model Inductor
pins: 1, 2

## LQG15HS1N5S02D
designator L?, comment 1.5nH
INDUCTOR 1.5NH ±0.3n 0402 SMD; Manufacturer 1: Murata; Manufacturer Part Number 1: LQG15HS1N5S02D; Part Type: Chip Inductor; Supplier 1: Digi-Key; Supplier Part Number 1: 490-2612-1-ND; Supplier 2: Mouser; Supplier Part Number 2: 81-LQG15HS1N5S02D; Value: 1.5nH
footprint INDC1005AL (Chip Inductor, Body 1.0x0.5mm, IPC High Density)
footprint INDC1608L (Chip Inductor, Body 1.6x0.8mm, IPC High Density)
footprint INDC2012L (Chip Inductor, Body 2.0x1.2mm, IPC High Density)
footprint CL0402
footprint INDC3216AL (Chip Inductor, Body 3.2x1.6mm, IPC High Density)
footprint INDC4532L (Chip Inductor, Body 4.5x3.2mm, IPC High Density)
simulation model INDUCTOR (Inductor)
signal-integrity model Inductor
footprint 0402CS-RADIO (Coilcraft Inductor)
pins: 1, 2

## LQH3NPN1R0NJ0
designator L?, comment Manufacturer Part Number 1: LQH3NPN1R0NJ0  (hidden comment: 1.0uH)
INDUCTOR POWER 1.0UH 1620MA 1212; Manufacturer 1: Murata; Supplier 1: Digi-Key; Supplier Part Number 1: 490-5342-1-ND; Supplier 2: Mouser; Supplier Part Number 2: 81-LQH3NPN1R0NJ0L; Value: 1.0uH
footprint 0402-A (Chip Inductor, Body 1.0x0.5mm, IPC High Density)
footprint INDC1608L (Chip Inductor, Body 1.6x0.8mm, IPC High Density)
footprint 2029 (Chip Inductor, Body 2.0x1.2mm, IPC High Density)
footprint 0603 (Chip Inductor, Body 0.6x0.3mm, IPC High Density)
footprint INDC3216 (Chip Inductor, Body 3.2x1.6mm, IPC High Density)
footprint INDC4532 (Chip Inductor, Body 4.5x3.2mm, IPC High Density)
simulation model INDUCTOR (Inductor)
signal-integrity model Inductor
footprint 0805 (Chip Capacitor; Body 2.0 x 1.2 mm (LxW typ))
footprint IND30X30 (Footprint not found)
pins: 1, 2

## LQH3NPN100NM0L
designator L?, comment 10uH
INDUCTOR 10UH 870MA SMD; Manufacturer 1: Murata; Manufacturer Part Number 1: LQH3NPN100NM0; Supplier 1: Digi-Key; Supplier Part Number 1: 490-6636-1-ND; Supplier 2: Mouser; Supplier Part Number 2: 81-LQH3NPN100NM0L; Value: 10uH
footprint 0402-A (Chip Inductor, Body 1.0x0.5mm, IPC High Density)
footprint INDC1608L (Chip Inductor, Body 1.6x0.8mm, IPC High Density)
footprint 2029 (Chip Inductor, Body 2.0x1.2mm, IPC High Density)
footprint 0603 (Chip Inductor, Body 0.6x0.3mm, IPC High Density)
footprint INDC3216 (Chip Inductor, Body 3.2x1.6mm, IPC High Density)
footprint INDC4532 (Chip Inductor, Body 4.5x3.2mm, IPC High Density)
simulation model INDUCTOR (Inductor)
signal-integrity model Inductor
footprint 0805 (Chip Capacitor; Body 2.0 x 1.2 mm (LxW typ))
footprint IND30X30 (Footprint not found)
pins: 1, 2

## LQH3NPZ100MMEL
designator L?, comment 10uH
INDUCTOR FIXED IND 10UH 1.28A 228 MOHM; Manufacturer 1: Murata; Manufacturer Part Number 1: LQH3NPZ100MMEL; CMT Part Number: 100178; Supplier 1: Digi-Key; Supplier Part Number 1: 490-15968-1-ND; Value: 10uH
footprint 0402-A (Chip Inductor, Body 1.0x0.5mm, IPC High Density)
footprint INDC1608L (Chip Inductor, Body 1.6x0.8mm, IPC High Density)
footprint 2029 (Chip Inductor, Body 2.0x1.2mm, IPC High Density)
footprint 0603 (Chip Inductor, Body 0.6x0.3mm, IPC High Density)
footprint INDC3216 (Chip Inductor, Body 3.2x1.6mm, IPC High Density)
footprint INDC4532 (Chip Inductor, Body 4.5x3.2mm, IPC High Density)
simulation model INDUCTOR (Inductor)
signal-integrity model Inductor
footprint 0805 (Chip Capacitor; Body 2.0 x 1.2 mm (LxW typ))
footprint IND30X30 (Footprint not found)
pins: 1, 2

## LQW15AN1N8C00D
designator L?, comment 1.8nH
INDUCTOR 1.8NH 460MA 16 MOHM SMD; Manufacturer 1: Murata; Manufacturer Part Number 1: LQW15AN1N8C00D; CMT Part Number: 100175; Part Type: Chip Inductor; Supplier 1: Digi-Key; Supplier Part Number 1: 490-14479-1-ND; Value: 1.8nH
footprint INDC1005AL (Chip Inductor, Body 1.0x0.5mm, IPC High Density)
footprint INDC1608L (Chip Inductor, Body 1.6x0.8mm, IPC High Density)
footprint INDC2012L (Chip Inductor, Body 2.0x1.2mm, IPC High Density)
footprint 0402CS-RADIO (Coilcraft Inductor)
footprint INDC3216AL (Chip Inductor, Body 3.2x1.6mm, IPC High Density)
footprint INDC4532L (Chip Inductor, Body 4.5x3.2mm, IPC High Density)
simulation model INDUCTOR (Inductor)
signal-integrity model Inductor
footprint LQW15A_00_10 (Murata)
pins: 1, 2

## LQW15AN2N9B00D
designator L?, comment 2.9nH
INDUCTOR 2.9NH 0.1NH 0402; Manufacturer 1: Murata; Manufacturer Part Number 1: LQW15AN2N9B00D; Part Type: Chip Inductor; Supplier 1: Digi-Key; Supplier Part Number 1: 490-6801-1-ND; Supplier 2: Mouser; Supplier Part Number 2: 81-LQW15AN2N9B00D; Value: 2.9nH
footprint INDC1005AL (Chip Inductor, Body 1.0x0.5mm, IPC High Density)
footprint INDC1608L (Chip Inductor, Body 1.6x0.8mm, IPC High Density)
footprint INDC2012L (Chip Inductor, Body 2.0x1.2mm, IPC High Density)
footprint 0402CS-RADIO (Coilcraft Inductor)
footprint INDC3216AL (Chip Inductor, Body 3.2x1.6mm, IPC High Density)
footprint INDC4532L (Chip Inductor, Body 4.5x3.2mm, IPC High Density)
simulation model INDUCTOR (Inductor)
signal-integrity model Inductor
footprint LQW15A_00_10 (Murata)
pins: 1, 2

## LQW15AN3N3D10D
designator L?, comment 3.3nH
INDUCTOR 3.3NH 900MA 40 MOHM; Manufacturer 1: Murata; Manufacturer Part Number 1: LQW15AN3N3D10D; Part Type: Chip Inductor; Supplier 1: Digi-Key; Supplier Part Number 1: 490-6809-1-ND; Value: 3.3nH
footprint INDC1005AL (Chip Inductor, Body 1.0x0.5mm, IPC High Density)
footprint INDC1608L (Chip Inductor, Body 1.6x0.8mm, IPC High Density)
footprint INDC2012L (Chip Inductor, Body 2.0x1.2mm, IPC High Density)
footprint 0402CS-RADIO (Coilcraft Inductor)
footprint INDC3216AL (Chip Inductor, Body 3.2x1.6mm, IPC High Density)
footprint INDC4532L (Chip Inductor, Body 4.5x3.2mm, IPC High Density)
simulation model INDUCTOR (Inductor)
signal-integrity model Inductor
footprint LQW15A_00_10 (Murata)
pins: 1, 2

## LQW15AN4N7C00D
designator L?, comment 4.7nH
INDUCTOR 4.7NH 750MA 70 MOHM; Manufacturer 1: Murata; Manufacturer Part Number 1: LQW15AN4N7C00D; Part Type: Chip Inductor; Supplier 1: Digi-Key; Supplier Part Number 1: 490-1139-1-ND; Value: 4.7nH
footprint INDC1005AL (Chip Inductor, Body 1.0x0.5mm, IPC High Density)
footprint INDC1608L (Chip Inductor, Body 1.6x0.8mm, IPC High Density)
footprint INDC2012L (Chip Inductor, Body 2.0x1.2mm, IPC High Density)
footprint 0402CS-RADIO (Coilcraft Inductor)
footprint INDC3216AL (Chip Inductor, Body 3.2x1.6mm, IPC High Density)
footprint INDC4532L (Chip Inductor, Body 4.5x3.2mm, IPC High Density)
simulation model INDUCTOR (Inductor)
signal-integrity model Inductor
footprint LQW15A_00_10 (Murata)
pins: 1, 2

## LQW15AN6N8G00D
designator L?, comment 6.8nH
INDUCTOR 6.8NH 700MA 90 MOHM; Manufacturer 1: Murata; Manufacturer Part Number 1: LQW15AN6N8G00D; Part Type: Chip Inductor; Supplier 1: Digi-Key; Supplier Part Number 1: 490-6840-1-ND; Value: 6.8nH
footprint INDC1005AL (Chip Inductor, Body 1.0x0.5mm, IPC High Density)
footprint INDC1608L (Chip Inductor, Body 1.6x0.8mm, IPC High Density)
footprint INDC2012L (Chip Inductor, Body 2.0x1.2mm, IPC High Density)
footprint 0402CS-RADIO (Coilcraft Inductor)
footprint INDC3216AL (Chip Inductor, Body 3.2x1.6mm, IPC High Density)
footprint INDC4532L (Chip Inductor, Body 4.5x3.2mm, IPC High Density)
simulation model INDUCTOR (Inductor)
signal-integrity model Inductor
footprint LQW15A_00_10 (Murata)
footprint LQW15A_00_10 (Murata)
pins: 1, 2

## LQW15AN7N5G00D
designator L?, comment 7.5nH
INDUCTOR 7.5NH 570MA 0402; Manufacturer 1: Murata; Manufacturer Part Number 1: LQW15AN7N5G00D; Part Type: Chip Inductor; Supplier 1: Digi-Key; Supplier Part Number 1: 490-6846-1-ND; Value: 7.5nH
footprint INDC1005AL (Chip Inductor, Body 1.0x0.5mm, IPC High Density)
footprint INDC1608L (Chip Inductor, Body 1.6x0.8mm, IPC High Density)
footprint INDC2012L (Chip Inductor, Body 2.0x1.2mm, IPC High Density)
footprint 0402CS-RADIO (Coilcraft Inductor)
footprint INDC3216AL (Chip Inductor, Body 3.2x1.6mm, IPC High Density)
footprint INDC4532L (Chip Inductor, Body 4.5x3.2mm, IPC High Density)
simulation model INDUCTOR (Inductor)
signal-integrity model Inductor
footprint LQW15A_00_10 (Murata)
pins: 1, 2

## LQW15AN9N1G00D
designator L?, comment 9.1nH
INDUCTOR 9.1NH 2% 0402; Manufacturer 1: Murata; Manufacturer Part Number 1: LQW15AN9N1G00D; Part Type: Chip Inductor; Supplier 1: Digi-Key; Supplier Part Number 1: 490-6854-1-ND; Supplier 2: Mouser; Supplier Part Number 2: 81-LQW15AN9N1G00D; Value: 9.1nH
footprint INDC1005AL (Chip Inductor, Body 1.0x0.5mm, IPC High Density)
footprint INDC1608L (Chip Inductor, Body 1.6x0.8mm, IPC High Density)
footprint INDC2012L (Chip Inductor, Body 2.0x1.2mm, IPC High Density)
footprint 0402CS-RADIO (Coilcraft Inductor)
footprint INDC3216AL (Chip Inductor, Body 3.2x1.6mm, IPC High Density)
footprint INDC4532L (Chip Inductor, Body 4.5x3.2mm, IPC High Density)
simulation model INDUCTOR (Inductor)
signal-integrity model Inductor
footprint LQW15A_00_10 (Murata)
pins: 1, 2

## LQW15AN10NG00D
designator L?, comment 10nH
INDUCTOR 10NH 5% 0402 SMD; Manufacturer 1: Abracon; Manufacturer Part Number 1: AISC-0402-10NG-T; Part Type: Chip Inductor; Manufacturer Part Number 2: LQW15AN10NG00D; Manufacturer 2: Murata; Supplier 1: Digi-Key; Supplier Part Number 1: AISC-0402-10NG-TCT-ND; Supplier 2: Mouser; Supplier Part Number 2: 81-LQW15AN10NG00D; Supplier 3: Digi-Key; Supplier Part Number 3: 490-6762-1-ND; Value: 10nH
footprint INDC1005AL (Chip Inductor, Body 1.0x0.5mm, IPC High Density)
footprint INDC1608L (Chip Inductor, Body 1.6x0.8mm, IPC High Density)
footprint INDC2012L (Chip Inductor, Body 2.0x1.2mm, IPC High Density)
footprint 0402CS-RADIO (Coilcraft Inductor)
footprint INDC3216AL (Chip Inductor, Body 3.2x1.6mm, IPC High Density)
footprint INDC4532L (Chip Inductor, Body 4.5x3.2mm, IPC High Density)
simulation model INDUCTOR (Inductor)
signal-integrity model Inductor
footprint LQW15A_00_10 (Murata)
pins: 1, 2

## LQW15AN18NJ00D
designator L?, comment 18nH
INDUCTOR 18NH 370MA 270 MOHM; Manufacturer 1: Murata; Manufacturer Part Number 1: LQW15AN18NJ00D; Part Type: Chip Inductor; Supplier 1: Digi-Key; Supplier Part Number 1: 490-1149-1-ND; Value: 18nH
footprint INDC1005AL (Chip Inductor, Body 1.0x0.5mm, IPC High Density)
footprint INDC1608L (Chip Inductor, Body 1.6x0.8mm, IPC High Density)
footprint INDC2012L (Chip Inductor, Body 2.0x1.2mm, IPC High Density)
footprint 0402CS-RADIO (Coilcraft Inductor)
footprint INDC3216AL (Chip Inductor, Body 3.2x1.6mm, IPC High Density)
footprint INDC4532L (Chip Inductor, Body 4.5x3.2mm, IPC High Density)
simulation model INDUCTOR (Inductor)
signal-integrity model Inductor
footprint LQW15A_00_10 (Murata)
pins: 1, 2

## LQW18AN22NJ10
designator L?, comment 22nH
INDUCTOR 22nH ±5% 0603 SMD; Manufacturer 1: Sumida; Manufacturer Part Number 1: 54062203400; Part Type: Chip Inductor; Manufacturer Part Number 2: LQW18AN22NJ10; Manufacturer 2: Murata; Supplier 1: Digi-Key; Supplier Part Number 1: 308-1709-1-ND; Supplier 2: Mouser; Supplier Part Number 2: 851-54062203400; Supplier 3: Digi-Key; Supplier Part Number 3: 490-6876-1-ND; Supplier 4: Mouser; Supplier Part Number 4: 81-LQW18AN22NJ10D; Value: 22nH
footprint INDC1005AL (Chip Inductor, Body 1.0x0.5mm, IPC High Density)
footprint INDC1608L (Chip Inductor, Body 1.6x0.8mm, IPC High Density)
footprint INDC2012L (Chip Inductor, Body 2.0x1.2mm, IPC High Density)
footprint 0603HP (Coilcraft Inductor)
footprint INDC3216AL (Chip Inductor, Body 3.2x1.6mm, IPC High Density)
footprint INDC4532L (Chip Inductor, Body 4.5x3.2mm, IPC High Density)
simulation model INDUCTOR (Inductor)
signal-integrity model Inductor
pins: 1, 2

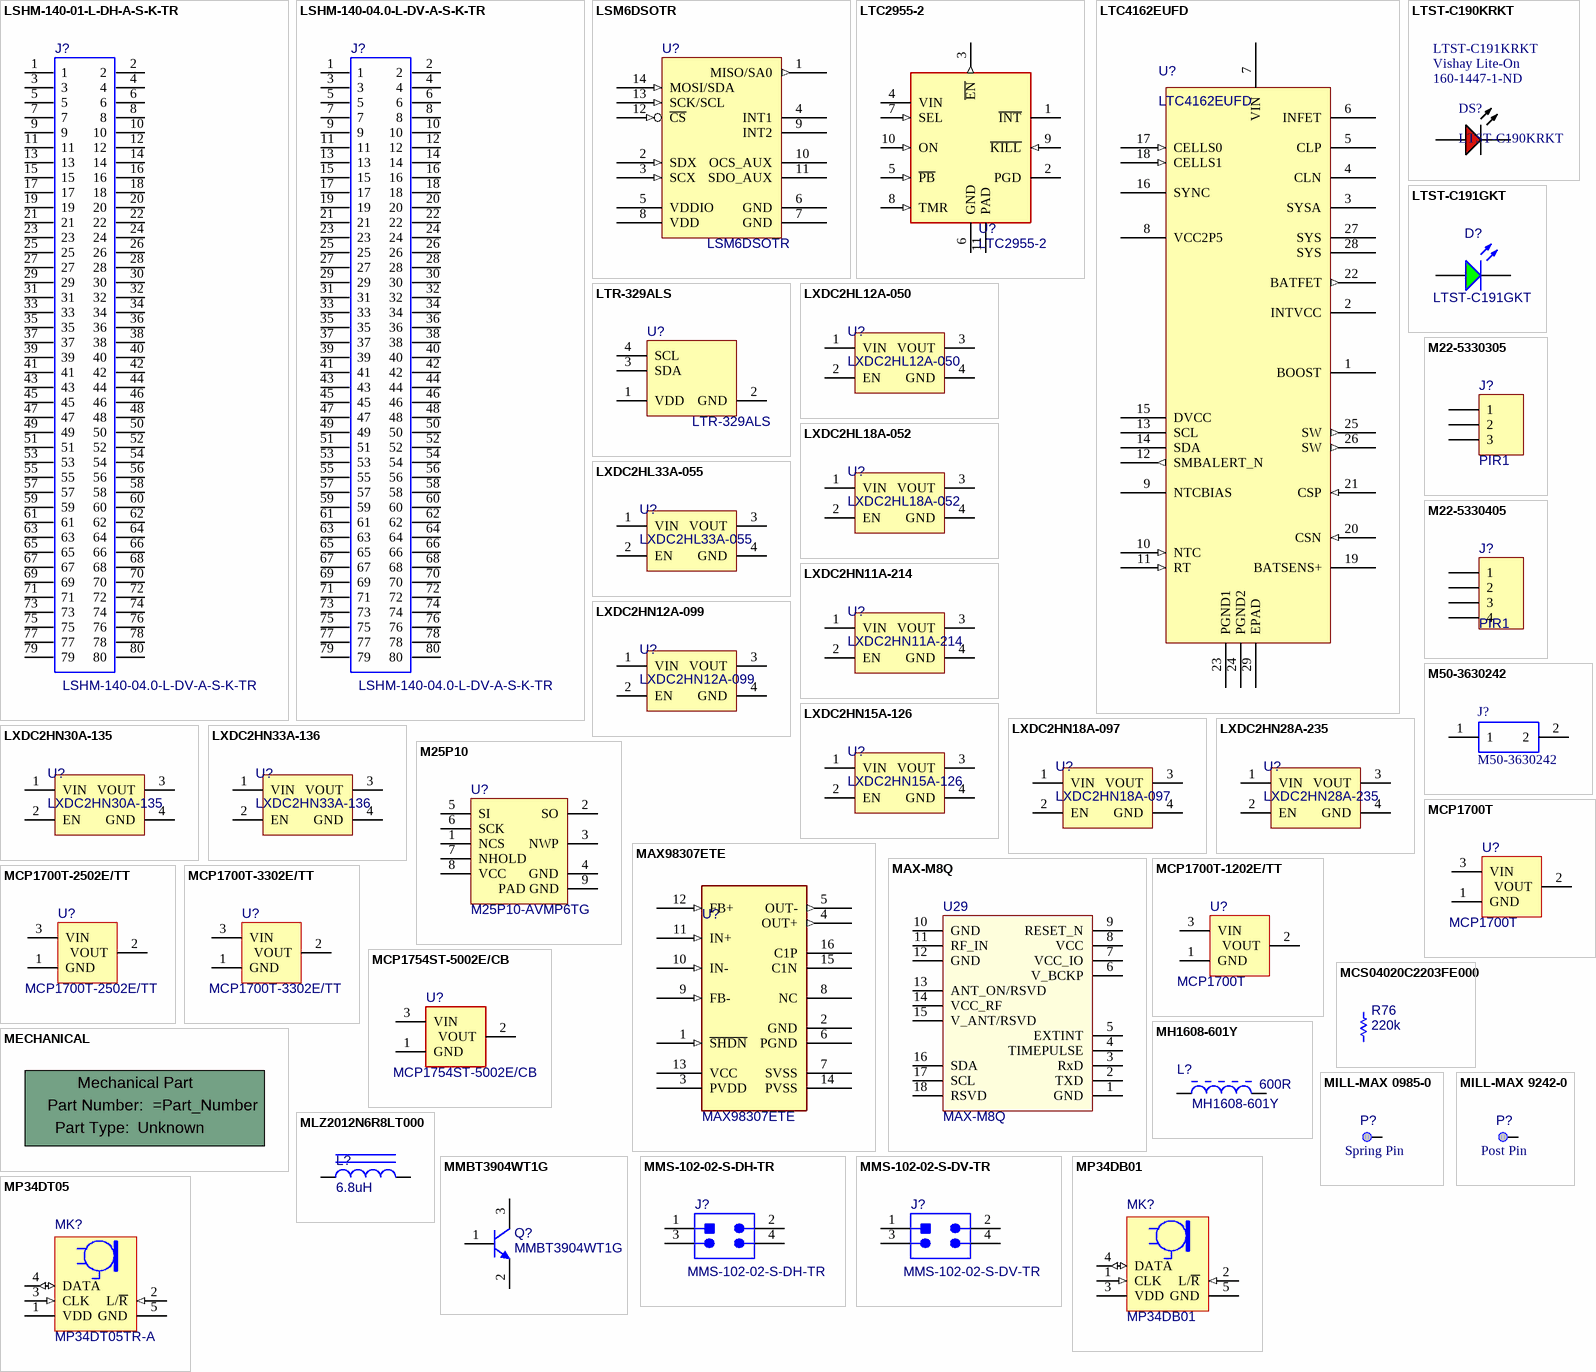
[diagram p12: symbols LSHM-140-01-L-DH-A-S-K-TR to MP34DT05]

## LSHM-140-01-L-DH-A-S-K-TR
designator J?, comment LSHM-140-04.0-L-DV-A-S-K-TR
CONN 0.5MM TERMINAL STRIP ASSEMBLY 80PINS; Manufacturer 1: Samtec; Value: LSHM-140-04.0-L-DV-A-S-K-TR; Manufacturer Part Number 1: LSHM-140-04.0-L-DV-A-S-K-TR; Supplier 1: Octopart; Supplier Part Number 1: Avnet - LSHM-140-04.0-L-DV-A-SKTR
footprint LSHM-140-DH-A-S
pins: 1, 2, 3, 4, 5, 6, 7, 8, 9, 10, 11, 12, 13, 14, 15, 16, 17, 18, 19, 20, 21, 22, 23, 24, 25, 26, 27, 28, 29, 30, 31, 32, 33, 34, 35, 36, 37, 38, 39, 40, 41, 42, 43, 44, 45, 46, 47, 48, 49, 50, 51, 52, 53, 54, 55, 56, 57, 58, 59, 60, 61, 62, 63, 64, 65, 66, 67, 68, 69, 70, 71, 72, 73, 74, 75, 76, 77, 78, 79, 80

## LSHM-140-04.0-L-DV-A-S-K-TR
designator J?
CONN 0.5MM TERMINAL STRIP ASSEMBLY 80PINS; Manufacturer 1: Samtec; Value: LSHM-140-04.0-L-DV-A-S-K-TR; Manufacturer Part Number 1: LSHM-140-04.0-L-DV-A-S-K-TR
footprint LSHM-140-XX.X-XX-DV-A-S
pins: 1, 2, 3, 4, 5, 6, 7, 8, 9, 10, 11, 12, 13, 14, 15, 16, 17, 18, 19, 20, 21, 22, 23, 24, 25, 26, 27, 28, 29, 30, 31, 32, 33, 34, 35, 36, 37, 38, 39, 40, 41, 42, 43, 44, 45, 46, 47, 48, 49, 50, 51, 52, 53, 54, 55, 56, 57, 58, 59, 60, 61, 62, 63, 64, 65, 66, 67, 68, 69, 70, 71, 72, 73, 74, 75, 76, 77, 78, 79, 80

## LSM6DSOTR
designator U?
IC MEMS IMU SENSOR 14LGA SMD; Manufacturer 1: ST Microelectronics; CMT Part Number: 100252; Value: LSM6DSOTR; Manufacturer Part Number 1: LSM6DSOTR; Supplier 1: Digi-Key; Supplier Part Number 1: 497-18181-1-ND; Supplier 2: Mouser; Supplier Part Number 2: 511-LSM6DSOTR
footprint PQFN50P300X250X86-14N
pins: 1 MISO/SA0 (out), 2 SDX (in), 3 SCX (in), 4 INT1 (oc), 5 VDDIO (power), 6 GND (power), 7 GND (power), 8 VDD (power), 9 INT2 (oc), 10 OCS_AUX, 11 SDO_AUX, 12 ~{CS} (in), 13 SCK/SCL (in), 14 MOSI/SDA (in)

## LTC2955-2
designator U?
IC CTLR ON/OFF PUSHBUTTON 10-DFN; Manufacturer Part Number 1: LTC2955CDDB-2; Manufacturer 1: Linear Technology; Value: LTC2955CDDB-2; Supplier 1: Digi-Key; Supplier Part Number 1: LTC2955CDDB-2#TRMPBFCT-ND
footprint QFN50P300X200X75_HS-11N (QFN, 10-Leads, Body 3.00x2.00mm, Pitch 0.50mm, Thermal Pad 2.40x1.15mm, IPC Medium Density)
pins: 1 ~{INT} (oc), 2 PGD (oc), 3 ~{EN} (out), 4 VIN (power), 5 ~{PB} (in), 6 GND (power), 7 SEL (in), 8 TMR (in), 9 ~{KILL} (in), 10 ON (in), 11 PAD (power)

## LTC4162EUFD
designator U?
IC BATT CHARGER LI-ION QFN28; Manufacturer: Linear Tech; Manufacturer Part Number: LTC4162EUFD
pins: 1 BOOST, 2 INTVCC (power), 3 SYSA, 4 CLN, 5 CLP, 6 INFET, 7 VIN (power), 8 VCC2P5, 9 NTCBIAS, 10 NTC (in), 11 RT (in), 12 SMBALERT_N (out), 13 SCL (oc), 14 SDA (oc), 15 DVCC, 16 SYNC, 17 CELLS0 (in), 18 CELLS1 (in), 19 BATSENS+, 20 CSN (in), 21 CSP (in), 22 BATFET (out), 23 PGND1 (power), 24 PGND2 (power), 25 SW (out), 26 SW (out), 27 SYS (power), 28 SYS (power), 29 EPAD (power)

## LTR-329ALS
designator U?
IC AMBIENT LIGHT PHOTO SENSOR; Manufacturer 1: Lite-On; Manufacturer Part Number 1: LTR-329ALS-01; CMT Part Number: 100212; Value: LTR-329ALS; Supplier 1: Digi-Key; Supplier Part Number 1: 160-2160-1-ND
pins: 1 VDD (power), 2 GND (power), 3 SDA (oc), 4 SCL (oc)

## LTST-C190KRKT
designator DS?  Supplier Part Number 1: 160-1447-1-ND  Manufacturer 1: Vishay Lite-On  Manufacturer Part Number 1: LTST-C191KRKT
LED RED CLEAR SMD; ComponentLink1Description: Manufacturer URL; ComponentLink2URL: http://optoelectronics.liteon.com/upload/download/DS-22-99-0151/S_110_LTST-C190KRKT.pdf; ComponentLink1URL: http://www.us.liteon.com/; ComponentLink2Description: Datasheet; Colour: Red; Supplier 1: Digi-Key; Case/Package: 0603
footprint LTST-C191KRKT_V (SMD, 2-Leads, Body 1.6x0.8mm)
pins: 1 A, 2 K

## LTST-C191GKT
designator D?, comment value LTST-C191GKT  (hidden comment: GREEN)
LED GREEN CLEAR THIN 0603 SMD; Manufacturer 1: Lite-On; Manufacturer Part Number 1: LTST-C191GKT; Supplier 1: Digi-Key; Supplier Part Number 1: 160-1443-1-ND; Supplier 2: Mouser; Supplier Part Number 2: 859-LTST-C191GKT
footprint LED/0603
simulation model LED3 (Diode)
signal-integrity model LED
pins: 1 A, 2 K

## LXDC2HL12A-050
designator U?
DC/DC CONVERTER 1.2V 600MA SMD; Manufacturer 1: TDK; Manufacturer Part Number 1: LXDC2HL12A-050; Supplier 1: Digi-Key; Supplier Part Number 1: 490-5789-1-ND; Value: LXDC2HL12A-050
footprint DFN135P200X45-4N (DFN, 4-Leads, Body 2.50x2.00mm, Pitch 1.35mm, IPC Medium Density)
footprint DFN110P200X100-4N (DFN, 4-Leads, Body 2.50x2.00mm, Pitch 1.10mm, IPC Medium Density)
pins: 1 VIN, 2 EN, 3 VOUT, 4 GND (power)

## LXDC2HL18A-052
designator U?
DC/DC CONVERTER 1.8V 600MA SMD; Manufacturer 1: TDK; Manufacturer Part Number 1: LXDC2HL18A-052; Supplier 1: Digi-Key; Supplier Part Number 1: 490-5791-1-ND; Value: LXDC2HL18A-052
footprint DFN135P200X45-4N (DFN, 4-Leads, Body 2.50x2.00mm, Pitch 1.35mm, IPC Medium Density)
footprint DFN110P200X100-4N (DFN, 4-Leads, Body 2.50x2.00mm, Pitch 1.10mm, IPC Medium Density)
pins: 1 VIN, 2 EN, 3 VOUT, 4 GND (power)

## LXDC2HL33A-055
designator U?
DC/DC CONVERTER 3.3V 300MA SMD; Manufacturer 1: TDK; Manufacturer Part Number 1: LXDC2HL33A-055; Supplier 1: Digi-Key; Supplier Part Number 1: 490-5795-1-ND; Value: LXDC2HL33A-055
footprint DFN135P200X45-4N (DFN, 4-Leads, Body 2.50x2.00mm, Pitch 1.35mm, IPC Medium Density)
footprint DFN110P200X100-4N (DFN, 4-Leads, Body 2.50x2.00mm, Pitch 1.10mm, IPC Medium Density)
pins: 1 VIN, 2 EN, 3 VOUT, 4 GND (power)

## LXDC2HN11A-214
designator U?
DC/DC CONVERTER 1.1V 600MA SMD; Manufacturer 1: TDK; Manufacturer Part Number 1: LXDC2HN11A-214; Value: LXDC2HN11A-214; Supplier 1: Octopart; Supplier Part Number 1: Mouser - 81-LXDC2HN11A-214
footprint DFN135P200X45-4N (DFN, 4-Leads, Body 2.50x2.00mm, Pitch 1.35mm, IPC Medium Density)
footprint DFN110P200X100-4N (DFN, 4-Leads, Body 2.50x2.00mm, Pitch 1.10mm, IPC Medium Density)
pins: 1 VIN, 2 EN, 3 VOUT, 4 GND (power)

## LXDC2HN12A-099
designator U?
DC/DC CONVERTER 1.2V 600MA SMD; Manufacturer 1: TDK; CMT Part Number: 100219; Manufacturer Part Number 1: LXDC2HN12A-099; Value: LXDC2HN12A-099; Supplier 1: Digi-Key; Supplier Part Number 1: LXDC2HN12A-099-ND
footprint DFN135P200X45-4N (DFN, 4-Leads, Body 2.50x2.00mm, Pitch 1.35mm, IPC Medium Density)
footprint DFN110P200X100-4N (DFN, 4-Leads, Body 2.50x2.00mm, Pitch 1.10mm, IPC Medium Density)
pins: 1 VIN, 2 EN, 3 VOUT, 4 GND (power)

## LXDC2HN15A-126
designator U?
DC/DC CONVERTER 1.5V 600MA SMD; Value: LXDC2HN15A-126
footprint DFN135P200X45-4N (DFN, 4-Leads, Body 2.50x2.00mm, Pitch 1.35mm, IPC Medium Density)
footprint DFN110P200X100-4N (DFN, 4-Leads, Body 2.50x2.00mm, Pitch 1.10mm, IPC Medium Density)
pins: 1 VIN, 2 EN, 3 VOUT, 4 GND (power)

## LXDC2HN18A-097
designator U?
DC/DC CONVERTER 1.8V 600MA SMD; Manufacturer 1: TDK; CMT Part Number: 100216; Manufacturer Part Number 1: LXDC2HN18A-097; Value: LXDC2HN18A-097; Supplier 1: Digi-Key; Supplier Part Number 1: 490-12092-1-ND
footprint DFN135P200X45-4N (DFN, 4-Leads, Body 2.50x2.00mm, Pitch 1.35mm, IPC Medium Density)
footprint DFN110P200X100-4N (DFN, 4-Leads, Body 2.50x2.00mm, Pitch 1.10mm, IPC Medium Density)
pins: 1 VIN, 2 EN, 3 VOUT, 4 GND (power)

## LXDC2HN28A-235
designator U?
DC/DC CONVERTER 2.8V 450MA SMD; Manufacturer 1: TDK; CMT Part Number: 100218; Manufacturer Part Number 1: LXDC2HN28A-235; Value: LXDC2HN28A-235; Supplier 1: Digi-Key; Supplier Part Number 1: LXDC2HN28A-235-ND
footprint DFN135P200X45-4N (DFN, 4-Leads, Body 2.50x2.00mm, Pitch 1.35mm, IPC Medium Density)
footprint DFN110P200X100-4N (DFN, 4-Leads, Body 2.50x2.00mm, Pitch 1.10mm, IPC Medium Density)
pins: 1 VIN, 2 EN, 3 VOUT, 4 GND (power)

## LXDC2HN30A-135
designator U?
DC/DC CONVERTER 3.0V 400MA SMD; Manufacturer 1: TDK; Manufacturer Part Number 1: LXDC2HN30A-135; Value: LXDC2HN30A-135; Supplier 1: Digi-Key; Supplier Part Number 1: LXDC2HN30A-135-ND
footprint DFN135P200X45-4N (DFN, 4-Leads, Body 2.50x2.00mm, Pitch 1.35mm, IPC Medium Density)
footprint DFN110P200X100-4N (DFN, 4-Leads, Body 2.50x2.00mm, Pitch 1.10mm, IPC Medium Density)
pins: 1 VIN, 2 EN, 3 VOUT, 4 GND (power)

## LXDC2HN33A-136
designator U?
DC/DC CONVERTER 3.3V 300MA SMD; Manufacturer 1: TDK; CMT Part Number: 100217; Manufacturer Part Number 1: LXDC2HN33A-136; Value: LXDC2HN33A-136; Supplier 1: Digi-Key; Supplier Part Number 1: 490-11800-1-ND
footprint DFN110P200X100-4N (DFN, 4-Leads, Body 2.50x2.00mm, Pitch 1.10mm, IPC Medium Density)
pins: 1 VIN, 2 EN, 3 VOUT, 4 GND (power)

## M22-5330305
designator J?, comment PIR1
3 WAY SIL HORIZ SMT PIN HDR; Manufacturer 1: Harwin; Manufacturer Part Number 1: M22-5330305; Value: M22-5330305; Supplier 1: Digi-Key; Supplier Part Number 1: M22-5330305-ND; Supplier 2: Mouser; Supplier Part Number 2: 855-M22-5330305
footprint PICOCLASP 1X3 (1mm 3pos SMD Header)
signal-integrity model Connector
footprint MHDR1X3 (Connector; Header; 3 Position)
pins: 1, 2, 3

## M22-5330405
designator J?, comment PIR1
4 WAY SIL HORIZ SMT PIN HDR; Manufacturer 1: Harwin; Manufacturer Part Number 1: M22-5330405; Value: M22-5330405; Supplier 1: Digi-Key; Supplier Part Number 1: M22-5330405-ND; Supplier 2: Mouser; Supplier Part Number 2: 855-M22-5330405
signal-integrity model Connector
footprint MHDR1X4 (Footprint not found)
pins: 1, 2, 3, 4

## M25P10
designator U?  Manufacturer Part Number 1: M25P10-AVMP6TG  (hidden comment: M25P10)
IC FLASH 1MBIT 50MHZ 8VFQFPN; Manufacturer 1: Spansion; Supplier 1: Digi-Key; Supplier Part Number 1: M25P10-AVMP6TGCT-ND; Value: M25P10; Supplier 2: Mouser; Supplier Part Number 2: 511-M25P10-AVMP6TG
footprint QFN127P600X500-9N
pins: 1 NCS, 2 SO, 3 NWP, 4 GND, 5 SI, 6 SCK, 7 NHOLD, 8 VCC, 9 PAD GND

## M50-3630242
designator J?
CONN HDR 1.27MM SMT AU 2POS; Manufacturer 1: HARWIN; Supplier Part Number 1: 952-3606-ND; Manufacturer Part Number 1: M50-3630242; Datasheet Link: https://cdn.harwin.com/pdfs/M50-363.pdf; Supplier 1: Digikey
footprint M50-3630242R
pins: 1, 2

## MAX98307ETE
designator U?
IC AMP AUD 3.3W MONO DG 16TQFN; Manufacturer 1: Maxim; Supplier 1: Digi-Key; Supplier 2: Newark; Supplier Part Number 1: MAX98307ETE+TCT-ND; Supplier Part Number 2: 73Y6585; Manufacturer Part Number 1: MAX98307ETE; Value: MAX98307ETE
footprint QFN50P300X300X75_HS-17N (QFN, 16-Leads, Body 3.00x3.00mm, Pitch 0.50mm, Thermal Pad 1.10x1.10mm, IPC Medium Density)
pins: 1 ~{SHDN} (in), 2 GND (power), 3 PVDD (power), 4 OUT+ (out), 5 OUT- (out), 6 PGND (power), 7 SVSS (power), 8 NC, 9 FB- (in), 10 IN- (in), 11 IN+ (in), 12 FB+ (in), 13 VCC (power), 14 PVSS, 15 C1N, 16 C1P

## MAX-M8Q
designator U29
MODULE GPS UBLOX MAX GNSS; Manufacturer 1: U-blox; Manufacturer Part Number 1: MAX-M8Q-1; Value: MAX-M8Q
footprint MAX (u-blox MAX GPS/GNSS modules)
pins: 1 GND, 2 TXD, 3 RxD, 4 TIMEPULSE, 5 EXTINT, 6 V_BCKP, 7 VCC_IO, 8 VCC, 9 RESET_N, 10 GND, 11 RF_IN, 12 GND, 13 ANT_ON/RSVD, 14 VCC_RF, 15 V_ANT/RSVD, 16 SDA, 17 SCL, 18 RSVD

## MCP1700T
designator U?
IC REG LDO 3.3V 0.25A SOT23-3; Manufacturer1: Microchip; Manufacturer Part Number1: MCP1700T-3302E/TT; Part Type: IC; Supplier 1: Digi-Key; Supplier Part Number 1: MCP1700T3302ETTCT-ND; Supplier 2: Mouser; Supplier Part Number 2: 579-MCP1700T3302E/TT; Value: MCP1700T
footprint SOT95P237X110-3N (SOT23, 3-Leads, Body 2.86x2.37mm, Pitch 0.95mm, IPC Medium Density)
footprint SOT-23-3-small
pins: 1 GND, 2 VOUT, 3 VIN

## MCP1700T-1202E/TT
designator U?, comment MCP1700T
IC REG LDO 1.2V 0.25A SOT23-3; Manufacturer 1: Microchip; Manufacturer Part Number 1: MCP1700T-1202E/TT; Part Type: IC; Supplier 1: Digi-Key; Supplier Part Number 1: MCP1700T-1202E/TTCT-ND; Value: MCP1700T
footprint SOT95P237X110-3N (SOT23, 3-Leads, Body 2.86x2.37mm, Pitch 0.95mm, IPC Medium Density)
footprint SOT-23-3-small
pins: 1 GND, 2 VOUT, 3 VIN

## MCP1700T-2502E/TT
designator U?
IC REG LDO 2.5V 0.25A SOT23-3; Manufacturer 1: Microchip; Part Type: IC; Supplier 1: Digi-Key; Supplier Part Number 1: MCP1700T-2502E/TTCT-ND; Manufacturer Part Number 1: MCP1700T-2502E/TT; Value: MCP1700T-2502E/TT
footprint SOT95P237X110-3N (SOT23, 3-Leads, Body 2.86x2.37mm, Pitch 0.95mm, IPC Medium Density)
footprint SOT-23-3-small
pins: 1 GND, 2 VOUT, 3 VIN

## MCP1700T-3302E/TT
designator U?
IC REG LDO 3.3V 0.25A SOT23-3; Manufacturer 1: Microchip; Part Type: IC; Supplier 1: Digi-Key; Supplier Part Number 1: MCP1700T3302ETTCT-ND; Manufacturer Part Number 1: MCP1700T-3302E/TT; Value: MCP1700T-3302E/TT
footprint SOT95P237X110-3N (SOT23, 3-Leads, Body 2.86x2.37mm, Pitch 0.95mm, IPC Medium Density)
footprint SOT-23-3-small
pins: 1 GND, 2 VOUT, 3 VIN

## MCP1754ST-5002E/CB
designator U?
IC REG LDO 5V 0.15A SOT23A-3; Manufacturer1: Microchip; Manufacturer Part Number1: MCP1754ST-5002E/CB; Part Type: IC; Supplier 1: Digi-Key; Supplier Part Number 1: MCP1754ST-5002E/CBCT-ND; Value: MCP1754ST-5002E/CB
footprint SOT95P230X109-3N
pins: 1 GND, 2 VOUT, 3 VIN

## MCS04020C2203FE000
designator R76, comment 220k
MCS04020C2203FE000; Manufacturer 1: Vishay BCcomponents; CMT Part Number: 100200; Case/Package: 0402; Manufacturer Part Number 1: MCS04020C2203FE000; Supplier Part Number 1: 2312 275 12204-ND; Supplier 1: Digi-Key; Supplier 2: Mouser; Supplier Part Number 2: 594-MCS04020C2203FE0; Supplier 3: Digi-Key; Supplier Part Number 3: 749-1566-1-ND; Value: 220k
footprint 0402 Resistor
footprint RESC0603N (Chip Resistor, Body 0.6x0.3mm, IPC Medium Density)
footprint 1005[0402] (Chip Resistor; Body 1.1 x 0.5 mm (LxW typ))
footprint 0402
pins: 1, 2

## MECHANICAL
designator !MECH1  (value not drawn)  (mechanical)
Mechanical Part; Part_Type: Unknown; CompType: Mechanical; Part_Number: =Manufacturer Part Number1; Value: *; Manufacturer 1: *; Manufacturer Part Number 1: *; Part Type: =PartType
1 alternate drawing of the same symbol
text: Part Number:; Part Type:

## MH1608-601Y
designator L?  value 600R
FERRITE BEAD 600 OHM 0603 1LN; Manufacturer: Bourns; Test Frequency: 100MHz; Supplier: Digi-Key; Core Material: Ferrite; Case/Package: 0603; Manufacturer Part Number: MH1608-601Y; Supplier Part Number: MH1608-601YDKR-ND
footprint BOUR-MH1608_V (Chip Bead, 2-Leads, Body 1.6x0.8mm)
pins: 1, 2

## MILL-MAX 0985-0
designator P?, comment Spring Pin
CONTACT SPRING LOADED T/H GOLD; Manufacturer 1: Mill-Max Manufacturing Corp.; Manufacturer Part Number 1: 0985-0-15-20-71-14-11-0; Value: Testpoint; Supplier 1: Digi-Key; Supplier Part Number 1: ED1122-ND
footprint Mill-Max 0985 (CONTACT SPRING LOADED T/H GOLD)
pins: 1

## MILL-MAX 9242-0
designator P?, comment Post Pin
CONN PC PIN CIRC .083 DIA TIN; Manufacturer 1: Mill-Max Manufacturing Corp.; Manufacturer Part Number 1: 9242-0-00-80-00-00-08-0; Value: Testpoint; Supplier 1: Digi-Key; Supplier Part Number 1: ED11077-ND
footprint Mill-Max 9242 (CONN PC PIN CIRC .083 DIA TIN)
pins: 1

## MLZ2012N6R8LT000
designator L?, comment 6.8uH
INDUCTOR 6.8UH 550MA 250 MOHM; Manufacturer 1: TDK; Manufacturer Part Number 1: MLZ2012N6R8LT000; Part Type: Chip Inductor; Supplier 1: Digi-Key; Supplier Part Number 1: 445-6761-1-ND; Value: 6.8uH
footprint INDC1005AL (Chip Inductor, Body 1.0x0.5mm, IPC High Density)
footprint INDC1608L (Chip Inductor, Body 1.6x0.8mm, IPC High Density)
footprint 0805_145 (0805 / 1.45mm height)
footprint 0402CS-RADIO (Coilcraft Inductor)
footprint INDC3216AL (Chip Inductor, Body 3.2x1.6mm, IPC High Density)
footprint INDC4532L (Chip Inductor, Body 4.5x3.2mm, IPC High Density)
simulation model INDUCTOR (Inductor)
signal-integrity model Inductor
pins: 1, 2